# EAGLE library part ADS5562 (library texusinstruments-ADC)
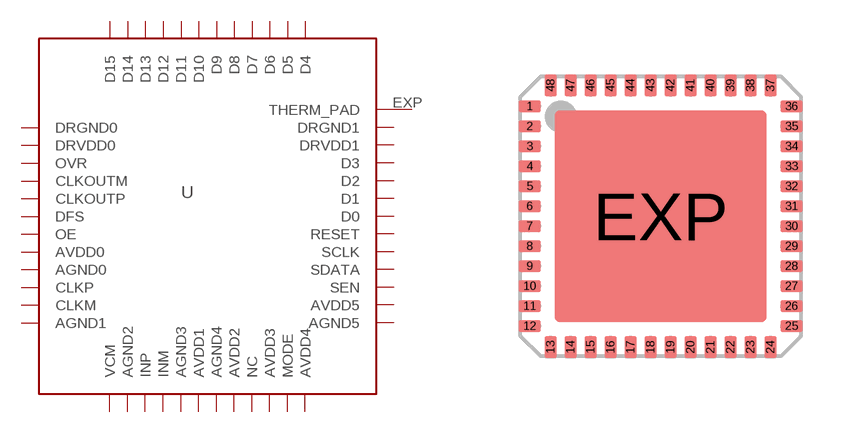
[diagram p0: symbol with the pads of 48-QFN; footprint 48-QFN]

Designator prefix -

## ADS5562  [48-QFN]
1  DRGND0
2  DRVDD0
3  OVR
4  CLKOUTM
5  CLKOUTP
6  DFS
7  OE
8  AVDD0
9  AGND0
10  CLKP
11  CLKM
12  AGND1
13  VCM
14  AGND2
15  INP
16  INM
17  AGND3
18  AVDD1
19  AGND4
20  AVDD2
21  NC
22  AVDD3
23  MODE
24  AVDD4
25  AGND5
26  AVDD5
27  SEN
28  SDATA
29  SCLK
30  RESET
31  D0
32  D1
33  D2
34  D3
35  DRVDD1
36  DRGND1
37  D4
38  D5
39  D6
40  D7
41  D8
42  D9
43  D10
44  D11
45  D12
46  D13
47  D14
48  D15
EXP  THERM_PAD

## Footprint 48-QFN (pad centres in mm)
smd 0.55 x 0.3: 1 -3.275,2.75; 2 -3.275,2.25; 3 -3.275,1.75; 4 -3.275,1.25; 5 -3.275,0.75; 6 -3.275,0.25; 7 -3.275,-0.25; 8 -3.275,-0.75; 9 -3.275,-1.25; 10 -3.275,-1.75; 11 -3.275,-2.25; 12 -3.275,-2.75; 25 3.275,-2.75; 26 3.275,-2.25; 27 3.275,-1.75; 28 3.275,-1.25; 29 3.275,-0.75; 30 3.275,-0.25; 31 3.275,0.25; 32 3.275,0.75; 33 3.275,1.25; 34 3.275,1.75; 35 3.275,2.25; 36 3.275,2.75
smd 0.3 x 0.55: 13 -2.75,-3.275; 14 -2.25,-3.275; 15 -1.75,-3.275; 16 -1.25,-3.275; 17 -0.75,-3.275; 18 -0.25,-3.275; 19 0.25,-3.275; 20 0.75,-3.275; 21 1.25,-3.275; 22 1.75,-3.275; 23 2.25,-3.275; 24 2.75,-3.275; 37 2.75,3.275; 38 2.25,3.275; 39 1.75,3.275; 40 1.25,3.275; 41 0.75,3.275; 42 0.25,3.275; 43 -0.25,3.275; 44 -0.75,3.275; 45 -1.25,3.275; 46 -1.75,3.275; 47 -2.25,3.275; 48 -2.75,3.275
smd 5.309 x 5.309: EXP 0,0